# Altium footprint library capacitors.PcbLib: 6 footprints
Each footprint in its own frame and in the unit in brackets; x right, y up, seen from the top. Pads: shape width x height; smd on the part's side, far side on the other; paste and mask are expansions set on the pad; w line width, h text height; cw(c..) or ccw(c..) is an arc to the next point about the centre after c.
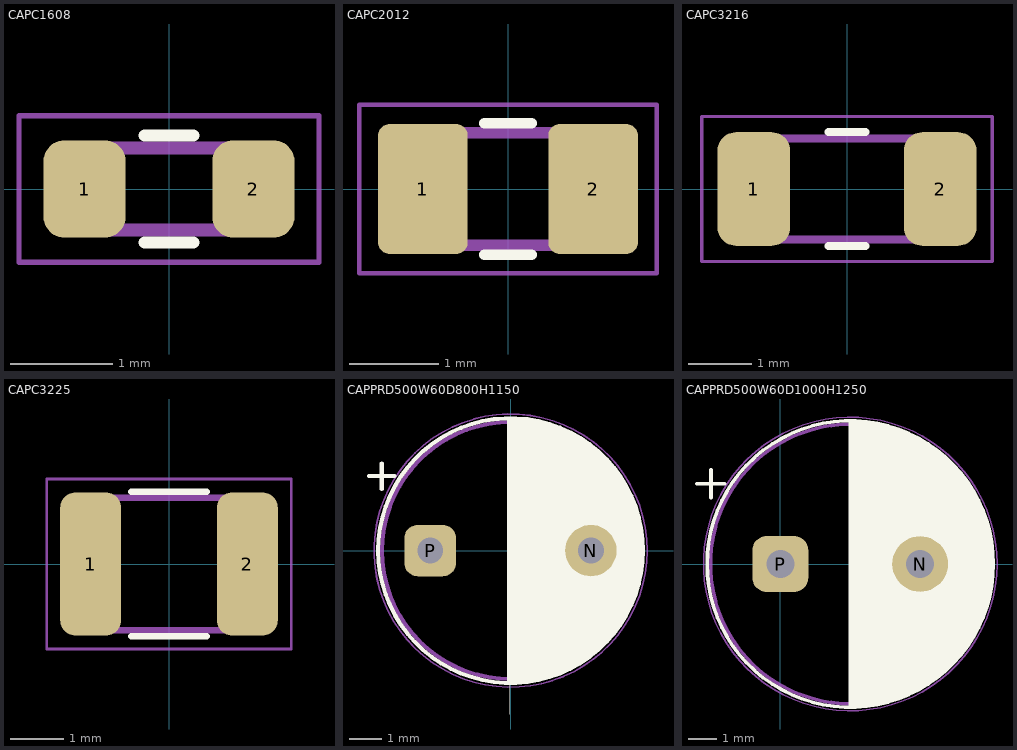
[diagram p0: the footprints below, top view; thin cyan lines are the x and y axes]

## CAPC1608 [mm] "SMD 0603 (1608 Metric)"
pads (2):
  rrect50% 0.8x0.95 smd: 1(-0.825,0) 2(0.825,0)
Top Overlay:
  lines w0.12: -0.237,-0.523 0.237,-0.523 ; -0.237,0.523 0.237,0.523
Mechanical 13:
  lines w0.127: -0.8,-0.4 0.8,-0.4 0.8,0.4 -0.8,0.4 -0.8,-0.4
Mechanical 15:
  lines w0.05: -1.465,-0.715 1.465,-0.715 1.465,0.715 -1.465,0.715 -1.465,-0.715
3D body "step_temp.STEP": height 0.95, standoff 0, extent -0.8,-0.4 0.8,0.4

## CAPC2012 [mm] "SMD 0805 (2012 Metric)"
pads (2):
  rrect25% 1x1.45 smd: 1(-0.95,0) 2(0.95,0)
Top Overlay:
  lines w0.12: -0.261,-0.735 0.261,-0.735 ; -0.261,0.735 0.261,0.735
Mechanical 13:
  lines w0.127: -1,-0.63 1,-0.63 1,0.63 -1,0.63 -1,-0.63
Mechanical 15:
  lines w0.05: -1.663,-0.94 1.663,-0.94 1.663,0.94 -1.663,0.94 -1.663,-0.94
3D body "step_temp.STEP": height 1.35, standoff 0, extent -1,-0.625 1,0.625

## CAPC3216 [mm] "SMD 1206 (3216 Metric)"
pads (2):
  rrect50% 1.15x1.8 smd: 1(-1.475,0) 2(1.475,0)
Top Overlay:
  lines w0.127: -0.29,-0.9 0.29,-0.9 ; -0.29,0.9 0.29,0.9
Mechanical 13:
  lines w0.127: -1.6,-0.8 -1.6,0.8 1.6,0.8 1.6,-0.8 -1.6,-0.8
Mechanical 15:
  lines w0.05: -2.3,-1.15 -2.3,1.15 2.3,1.15 2.3,-1.15 -2.3,-1.15
3D body "step_temp.STEP": height 1.8, standoff 0, extent -1.6,-0.8 1.6,0.8

## CAPC3225 [mm] "SMD 1210 (3225 Metric)"
pads (2):
  rrect50% 1.15x2.7 smd: 1(-1.475,0) 2(1.475,0)
Top Overlay:
  lines w0.127: -0.711,-1.36 0.711,-1.36 ; -0.711,1.36 0.711,1.36
Mechanical 13:
  lines w0.127: -1.6,-1.25 1.6,-1.25 1.6,1.25 -1.6,1.25 -1.6,-1.25
Mechanical 15:
  lines w0.05: -2.3,-1.6 2.3,-1.6 2.3,1.6 -2.3,1.6 -2.3,-1.6
3D body "step_temp.STEP": height 1.25, standoff 0, extent -1.6,-1.25 1.6,1.25

## CAPPRD500W60D800H1150 [mm]
pads (2):
  round 1.6 hole 0.8: N(2.5,0)
  rrect50% 1.6x1.6 hole 0.8: P(-2.5,0)
Top Overlay:
  circle w0.127: c0,0 r4.12
  region: 0.715,-3.612 0.925,-4.061 1.76,-3.672 1.551,-3.223
  region: 0.779,4.033 0.673,3.574 1.568,3.366 1.675,3.825
  rectangle: -0.045,-4.075 0.884,4.075
  region: -0.045,4.12 3.625,-0.05 -0.045,-4.12 -0.045,-5.085
  lines w0.127: -4.411,2.318 -3.611,2.318 ; -4.01,1.915 -4.01,2.715 ; -0.045,-4.12 -0.045,4.075
  lines w2.1: 0.974,2.843 cw(c0.137,0.001) 1.025,-2.826
Mechanical 13:
  circle w0.127: c0,0 r4
Mechanical 15:
  circle w0.05: c0,0 r4.25
3D body "step_temp.STEP": height 11.5, standoff -17, extent -4,-4 4,4

## CAPPRD500W60D1000H1250 [mm]
pads (2):
  round 2 hole 1: N(5,0)
  rrect50% 2x2 hole 1: P(0,0)
Top Overlay:
  circle w0.127: c2.5,0 r5.12
  region: 3.266,-4.553 3.347,-5.017 3.932,-4.914 3.85,-4.45
  region: 3.429,5.08 3.322,4.621 3.983,4.468 4.089,4.927
  rectangle: 2.5,-5.08 3.429,5.08
  region: 2.5,5.08 2.54,5.08 7.62,0 2.54,-5.08 2.5,-5.08
  lines w0.127: -2.98,2.875 -1.98,2.875 ; -2.48,2.375 -2.48,3.375 ; 2.5,-5.08 2.5,5.08
  lines w2.1: 3.511,3.916 cw(c2.545,0.005) 3.555,-3.895
Mechanical 13:
  circle w0.127: c2.5,0 r5
Mechanical 15:
  circle w0.05: c2.5,0 r5.25
3D body "step_temp.STEP": height 12.5, standoff -17, extent -2.489,-5 7.5,5